# EAGLE library part MAX521X (library max5215_max5217)
MAX5215/MAX5217 14-/16-Bit, Low-Power, Buffered Output Rail-to-Rail DACs with I2C Interface
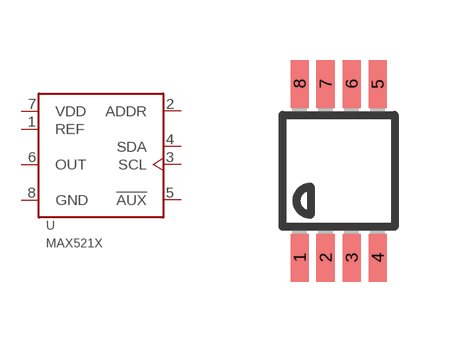
[diagram p0: symbol with the pads of UMAX8; footprint UMAX8]

Designator prefix U

## MAX521X  [UMAX8]
1  REF
2  ADDR
3  SCL  in
4  SDA
5  !AUX
6  OUT
7  VDD  pwr
8  GND  pwr

## Footprint UMAX8 (pad centres in mm)
micro MAX Package
smd 0.45 x 1.2: 1 -0.975,-2.175; 2 -0.325,-2.175; 3 0.325,-2.175; 4 0.975,-2.175; 5 0.975,2.175; 6 0.325,2.175; 7 -0.325,2.175; 8 -0.975,2.175